# Altium footprint library RJHSE-5384.PcbLib: 1 footprints
Each footprint in its own frame and in the unit in brackets; x right, y up, seen from the top. Pads: shape width x height; smd on the part's side, far side on the other; paste and mask are expansions set on the pad; w line width, h text height; cw(c..) or ccw(c..) is an arc to the next point about the centre after c.
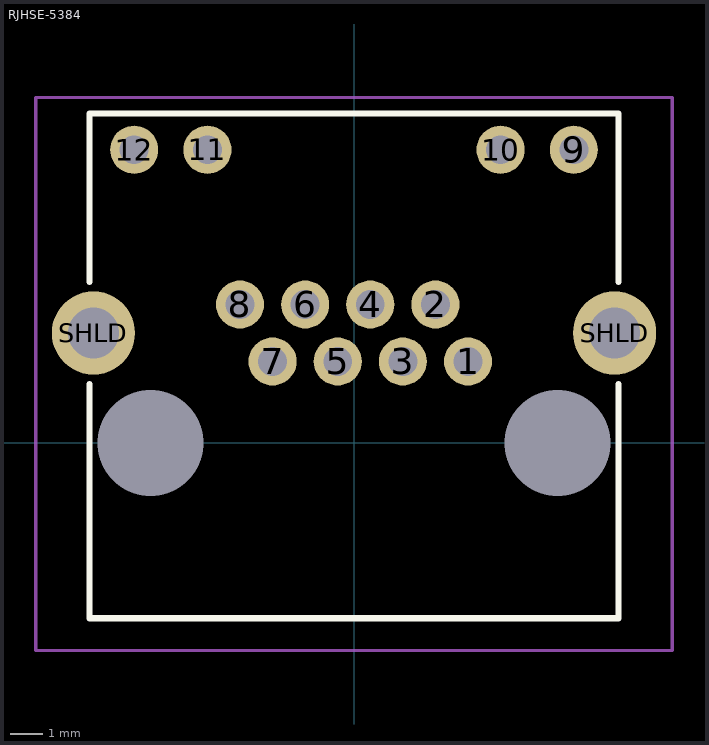
[diagram p0: the footprint, top view; thin cyan lines are the x and y axes]

## RJHSE-5384 [mm]
height 13.46
pads (16):
  round 1.5 hole 0.9: 1(3.556,2.54) 2(2.54,4.318) 3(1.524,2.54) 4(0.508,4.318) 5(-0.508,2.54) 6(-1.524,4.318) 7(-2.54,2.54) 8(-3.556,4.318) 9(6.858,9.144) 10(4.572,9.144) 11(-4.572,9.144) 12(-6.858,9.144)
  round 2.6 hole 1.6: SHLD(-8.128,3.429) SHLD(8.128,3.429)
  round 1 hole 3.3 unplated: ""(-6.35,0) ""(6.35,0)
Top Overlay:
  lines w0.2: -8.25,1.825 -8.25,-5.475 8.25,-5.475 8.25,1.825 ; -8.25,5.025 -8.25,10.275 8.25,10.275 8.25,5.025
Top Courtyard:
  lines w0.1: -9.925,-6.475 -8.375,-6.475 9.925,-6.475 9.925,10.775 -9.925,10.775 -9.925,-6.475
3D body "step_temp.STEP": height 15.98, standoff -3.68, extent -8.382,-5.969 8.382,10.287